# Altium footprint library AC_DC.PcbLib: 1 footprints
Each footprint in its own frame and in the unit in brackets; x right, y up, seen from the top. Pads: shape width x height; smd on the part's side, far side on the other; paste and mask are expansions set on the pad; w line width, h text height; cw(c..) or ccw(c..) is an arc to the next point about the centre after c.
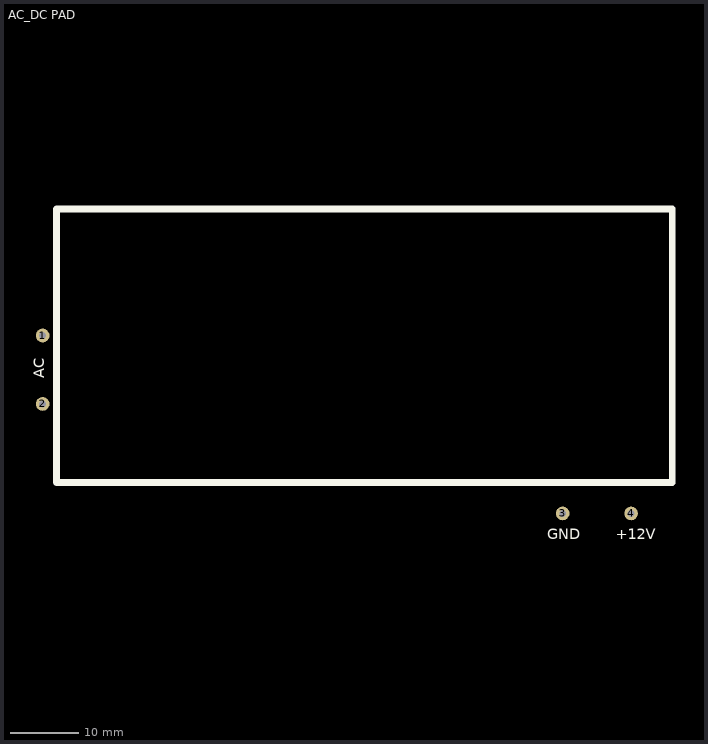
[diagram p0: the footprint, top view; thin cyan lines are the x and y axes]

## AC_DC PAD [mm]
pads (4):
  round 2 hole 1: 1(-1144,-1185) 2(-1144,-1195) 3(-1068,-1211) 4(-1058,-1211)
Top Overlay:
  lines w1: -1142,-1206.5 -1142,-1166.5 -1052,-1166.5 -1052,-1206.5 -1142,-1206.5
  text "AC" at -1143.754,-1191.246 h1.52
  text "GND" at -1070.246,-1214.746 h1.52
  text "+12V" at -1060.246,-1214.746 h1.52
3D body "ac_dc.stp": height 27, standoff 0, extent -1142,-1206.5 -1052,-1166.5